# EAGLE library part MCP2515-I_SO (library Custom_Hat_Library)
CAN Controller SPI data filtering SO18 Source: Datasheet <https://datasheet.datasheetarchive.com/originals/distributors/Datasheets-34/DSA-675138.pdf>
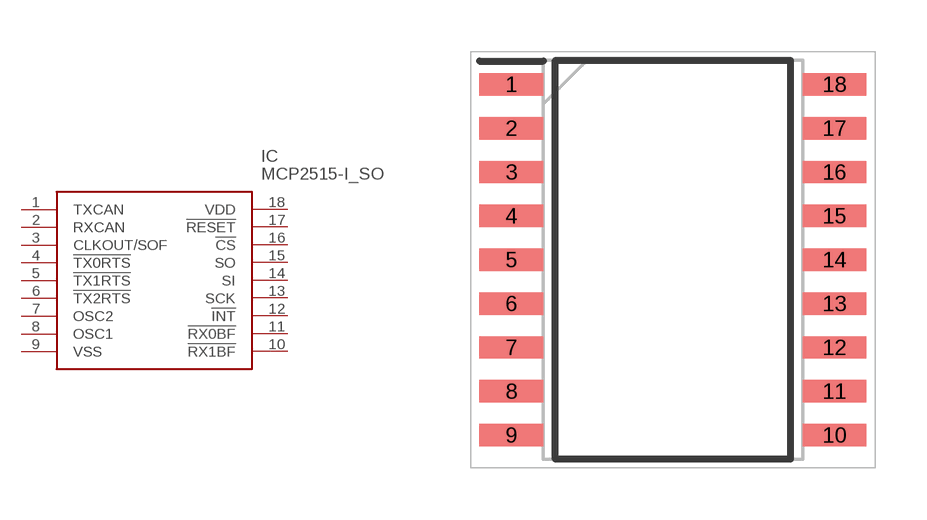
[diagram p1: symbol with the pads of SOIC127P1030X265-18N; footprint SOIC127P1030X265-18N]

Designator prefix IC

## MCP2515-I_SO (ARROW_PART_NUMBER: MCP2515-I/SO; ARROW_PRICE-STOCK: https://www.arrow.com/en/products/mcp2515-iso/microchip-technology?region=nac; DESCRIPTION: CAN Controller SPI data filtering SO18; HEIGHT: 2.65mm; MANUFACTURER_NAME: Microchip; MANUFACTURER_PART_NUMBER: MCP2515-I/SO; MOUSER_PART_NUMBER: 579-MCP2515-I/SO; MOUSER_PRICE-STOCK: https://www.mouser.co.uk/ProductDetail/Microchip-Technology/MCP2515-I-SO?qs=KwArPi4cUogGDbGnphOvtQ%3D%3D)  [SOIC127P1030X265-18N]
1  TXCAN
2  RXCAN
3  CLKOUT/SOF
4  !TX0RTS
5  !TX1RTS
6  !TX2RTS
7  OSC2
8  OSC1
9  VSS
10  !RX1BF
11  !RX0BF
12  !INT
13  SCK
14  SI
15  SO
16  !CS
17  !RESET
18  VDD

## Footprint SOIC127P1030X265-18N (pad centres in mm)
SO 18-Lead [SOIC]
smd 1.85 x 0.65: 1 -4.675,5.08; 2 -4.675,3.81; 3 -4.675,2.54; 4 -4.675,1.27; 5 -4.675,0; 6 -4.675,-1.27; 7 -4.675,-2.54; 8 -4.675,-3.81; 9 -4.675,-5.08; 10 4.675,-5.08; 11 4.675,-3.81; 12 4.675,-2.54; 13 4.675,-1.27; 14 4.675,0; 15 4.675,1.27; 16 4.675,2.54; 17 4.675,3.81; 18 4.675,5.08